# Altium footprint library jdtfuse_jfc2410.PcbLib: 1 footprints
Each footprint in its own frame and in the unit in brackets; x right, y up, seen from the top. Pads: shape width x height; smd on the part's side, far side on the other; paste and mask are expansions set on the pad; w line width, h text height; cw(c..) or ccw(c..) is an arc to the next point about the centre after c.
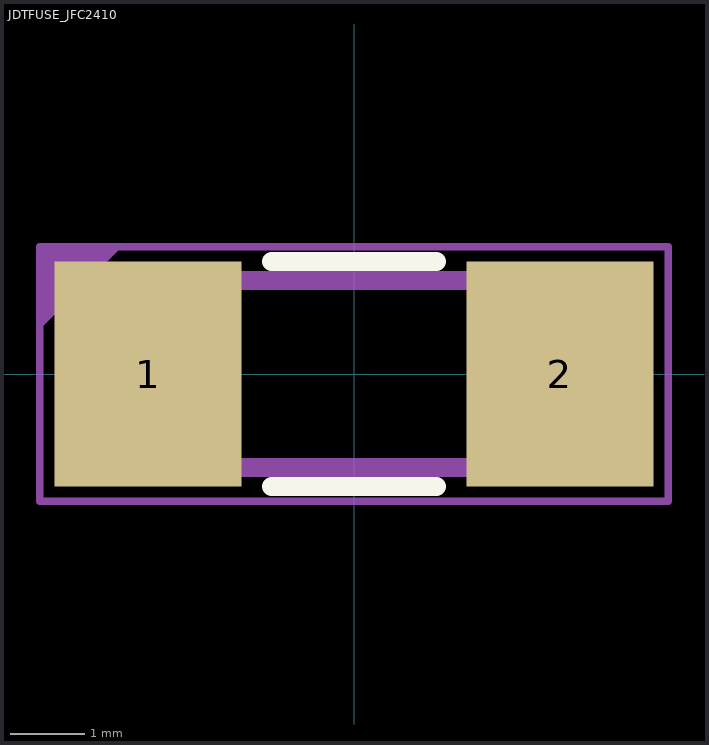
[diagram p0: the footprint, top view; thin cyan lines are the x and y axes]

## JDTFUSE_JFC2410 [mm] "JFC2410-0500TS 6.1 x 2.5 mm Fuse smd 2410"
pads (2):
  rect 2.5x3 smd: 1(-2.75,0) 2(2.75,0)
Top Overlay:
  lines w0.254: -1.1,-1.5 1.1,-1.5 ; -1.1,1.5 1.1,1.5
Top 3D Body:
  lines w0.254: -3.05,-1.25 -3.05,1.25 3.05,1.25 3.05,-1.25 -3.05,-1.25
Top Courtyard:
  region: -4.2,1.7 -3.1,1.7 -4.2,0.6
  lines w0.1: -4.2,-1.7 4.2,-1.7 4.2,1.7 -4.2,1.7 -4.2,-1.7
Top Designator:
  text ".Designator" at -2.2,-0.375 h1
3D body: height 2.5, standoff 0, extent -3.05,-1.25 3.05,1.25